# Altium footprint library 1.PcbLib: 8 footprints
Each footprint in its own frame and in the unit in brackets; x right, y up, seen from the top. Pads: shape width x height; smd on the part's side, far side on the other; paste and mask are expansions set on the pad; w line width, h text height; cw(c..) or ccw(c..) is an arc to the next point about the centre after c.
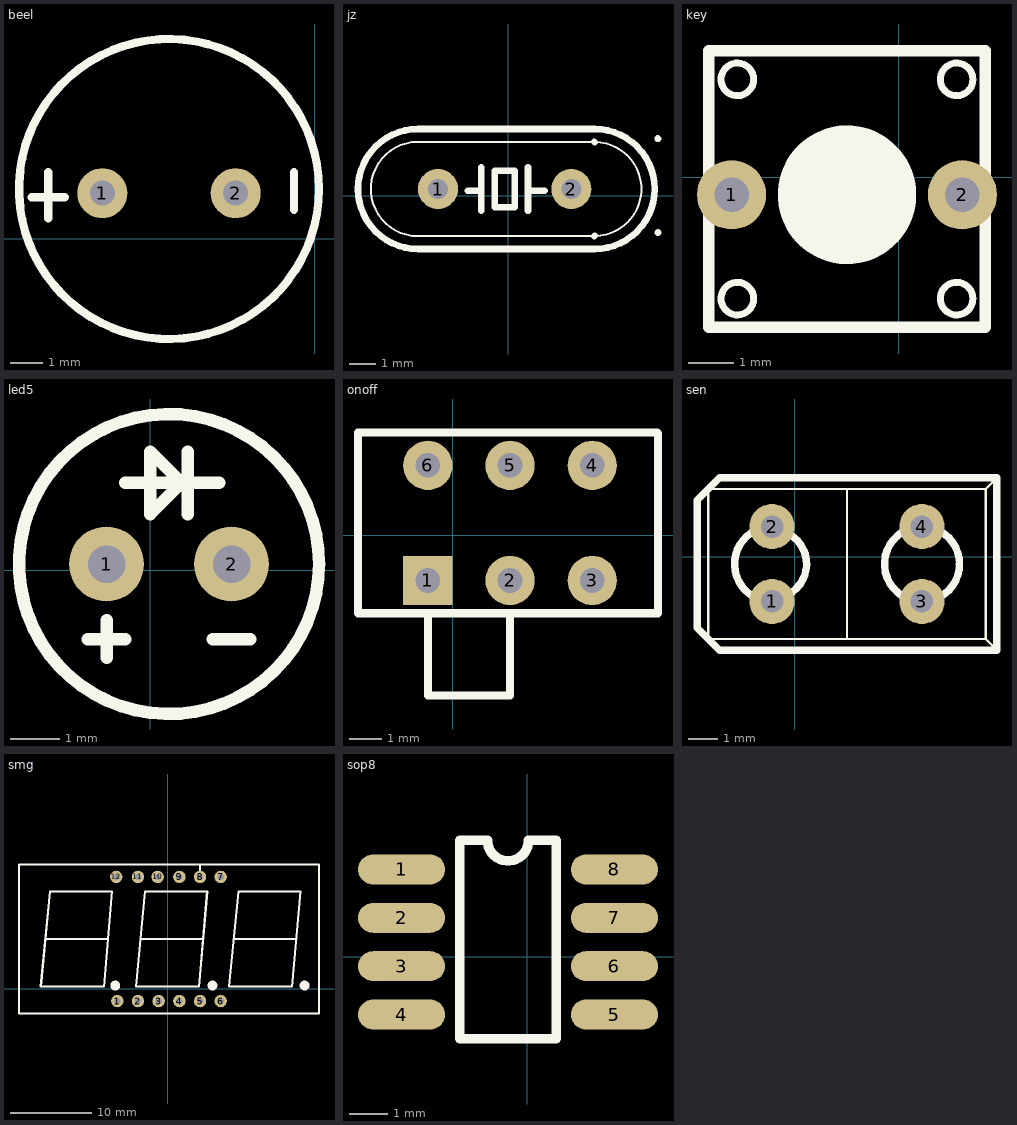
[diagram p0: the footprints below, top view; thin cyan lines are the x and y axes]

## beel [mil]
pads (2):
  round 60 hole 30: 1(-255,55) 2(-95,55)
Top Overlay:
  circle w10: c-175,60 r180
  lines w10: -340,50 -300,50 ; -320,25 -320,80 ; -25,35 -25,80

## jz [mil]
pads (2):
  round 60 hole 30: 1(-105,10) 2(95,10)
Top Overlay:
  lines w3: 129.47,-60.71 -135,-60.71 cw(c-135,10) -135,80.71 129.47,80.71 ; 130,-60.18 ccw(c130,10) 130,80.18
  lines w10: -60,7.5 -40,7.5 ; -40,-22.5 -40,42.5 ; 30,-22.5 30,42.5 ; 30,10 32.5,7.5 55,7.5 ; 129.47,-60.71 130,-60.18 ; 129.47,80.71 130,80.18 ; 224.47,-55.71 225,-55.18 ; 224.47,85.71 225,85.18 ; -135,-80 cw(c-135,10) -135,100 130,100 cw(c130,10) 130,-80 -135,-80 ; -20,-17.5 -20,37.5 10,37.5 10,-17.5 -20,-17.5

## key [mil]
pads (2):
  round 60 hole 30: 1(-145,-15) 2(55,-15)
Top Overlay:
  circle w80: c-45,-15 r20
  circle w6: c-140,85 r14.14
  circle w6: c-140,-105 r14.14
  circle w6: c50,85 r14.14
  circle w6: c50,-105 r14.14
  lines w10: -145,-20 -145,-15 ; -165,-130 75,-130 75,110 -165,110 -165,-130

## led5 [mil]
pads (2):
  round 60 hole 30: 1(-35,5) 2(65,5)
Top Overlay:
  circle w10: c15,5 r120
  lines w10: -50,-55 -20,-55 ; -35,-70 -35,-40 ; -20,70 55,70 ; 30,45 30,95 ; 50,-55 80,-55 ; 0,45 25,70 0,95 0,45

## onoff [mil]
pads (6):
  rect 60x60 hole 30: 1(-30,-55)
  round 60 hole 30: 2(70,-55) 3(170,-55) 4(170,85) 5(70,85) 6(-30,85)
Top Overlay:
  lines w10: -30,-95 70,-95 ; -30,-95 -115,-95 -115,125 249,125 250,124 250,-95 70,-95 ; -30,-95 -30,-195 70,-195 70,-95

## sen [mil]
pads (4):
  round 60 hole 30: 1(-30,-60) 2(-30,40) 3(170,-60) 4(170,40)
Top Overlay:
  circle w10: c170,-10 r50
  lines w3: 70,-110 70,90 ; 270,-125 255,-110 ; 270,105 255,90 ; 255,-110 255,90 ; 255,-110 -115,-110 -115,90 255,90
  lines w10: -57.74,31.6 ccw(c-30,-10) -54.28,-53.71 ; -20,35 cw(c-30,-10) -9.38,-51.23 ; -130,-95 -100,-125 270,-125 270,105 -100,105 -130,75 -130,-95

## smg [mil]
pads (12):
  round 60 hole 30: 1(-245,-60) 2(-145,-60) 3(-45,-60) 4(55,-60) 5(155,-60) 6(255,-60) 7(255,540) 8(155,540) 9(55,540) 10(-50,540) 11(-145,540) 12(-250,540)
Top Overlay:
  circle w25: c660,15 r11.18
  circle w25: c215,15 r11.18
  circle w25: c-255,15 r11.18
  lines w10: -592.5,240 -290,240 ; -132.5,240 170,240 ; 155,540 155,600 ; 317.5,240 620,240 ; -720,-120 -720,600 730,600 730,-120 -720,-120 ; -615,10 -310,10 -270,470 -570,470 -615,10 ; -155,10 150,10 190,470 -110,470 -155,10 ; 295,10 600,10 640,470 340,470 295,10

## sop8 [mil]
pads (8):
  rrect100% 90x31 smd: 1(-130,90) 2(-130,40) 3(-130,-10) 4(-130,-60) 5(90,-60) 6(90,-10) 7(90,40) 8(90,90)
Top Overlay:
  lines w10: -70,-85 30,-85 30,120 1.21,120 cw(c-20,120) -41.21,120 -70,120 -70,-85